# Altium footprint library PCB - CAPACITOR - MLCC - MURATA - GRM32E.PCBLIB: 1 footprints
Each footprint in its own frame and in the unit in brackets; x right, y up, seen from the top. Pads: shape width x height; smd on the part's side, far side on the other; paste and mask are expansions set on the pad; w line width, h text height; cw(c..) or ccw(c..) is an arc to the next point about the centre after c.
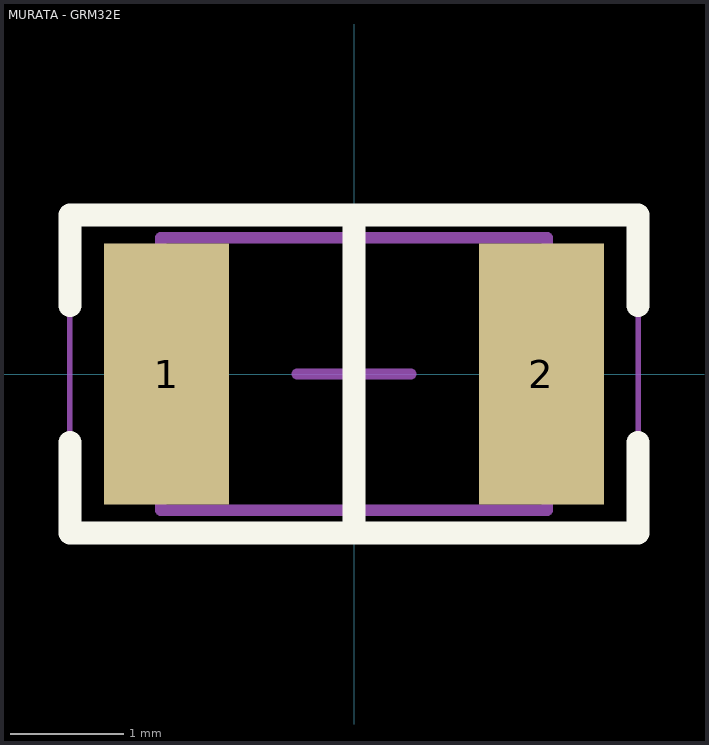
[diagram p0: the footprint, top view; thin cyan lines are the x and y axes]

## MURATA - GRM32E [mm] "Chip Capacitor, 2-Leads, Body 3.20x2.50mm"
height 2.7
pads (2):
  rect 1.1x2.3 smd: 1(-1.65,0) 2(1.65,0)
Top Overlay:
  lines w0.2: -2.5,-0.6 -2.5,-1.4 2.5,-1.4 2.5,-0.6 ; -2.5,0.6 -2.5,1.4 2.5,1.4 2.5,0.6 ; 0,-1.4 0,1.4
Mechanical 13:
  lines w0.1: -1.7,-1.2 1.7,-1.2 1.7,1.2 -1.7,1.2 -1.7,-1.2
Mechanical 15:
  lines w0.05: -2.5,-1.4 2.5,-1.4 2.5,1.4 -2.5,1.4 -2.5,-1.4
  lines w0.1: -0.5,0 0.5,0 ; 0,-0.5 0,0.5
3D body "Murata - GRM32E.step": height 2.5, standoff 0, extent -1.6,-1.25 1.6,1.25